# EAGLE library part USB-C_R/A_HYBRID (library habexpico8)
USB-C Right Angle Hybrid Receptacle
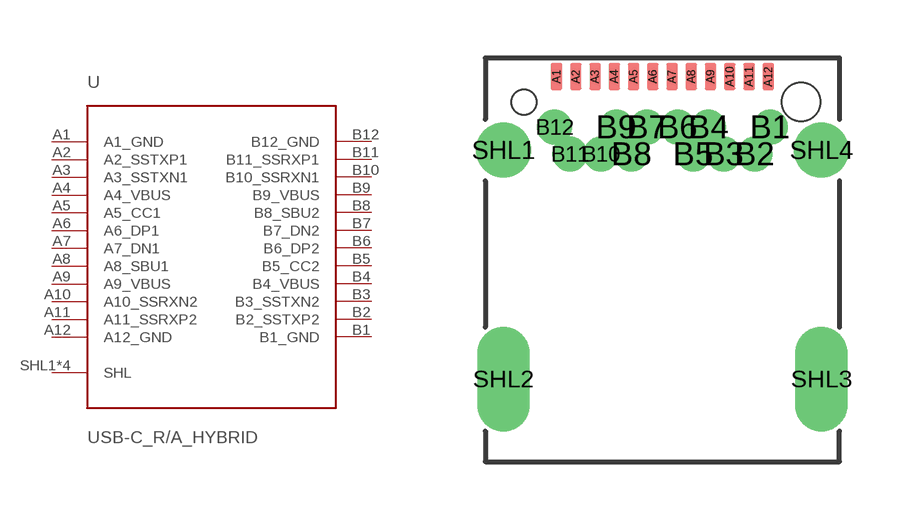
[diagram p6: symbol with the pads of USB-C_R/A_HYBRID_RCPT; footprint USB-C_R/A_HYBRID_RCPT]

Designator prefix U

## USB-C_R/A_HYBRID (MFG_PN: 12401548E4#2A)  [USB-C_R/A_HYBRID_RCPT]
A1  A1_GND
A2  A2_SSTXP1
A3  A3_SSTXN1
A4  A4_VBUS
A5  A5_CC1
A6  A6_DP1
A7  A7_DN1
A8  A8_SBU1
A9  A9_VBUS
A10  A10_SSRXN2
A11  A11_SSRXP2
A12  A12_GND
B1  B1_GND
B2  B2_SSTXP2
B3  B3_SSTXN2
B4  B4_VBUS
B5  B5_CC2
B6  B6_DP2
B7  B7_DN2
B8  B8_SBU2
B9  B9_VBUS
B10  B10_SSRXN1
B11  B11_SSRXP1
B12  B12_GND
SHL1  SHL
SHL2  SHL
SHL3  SHL
SHL4  SHL

## Footprint USB-C_R/A_HYBRID_RCPT (pad centres in mm)
smd 0.3 x 0.7: A1 -2.75,2.01; A2 -2.25,2.01; A3 -1.75,2.01; A4 -1.25,2.01; A5 -0.75,2.01; A6 -0.25,2.01; A7 0.25,2.01; A8 0.75,2.01; A9 1.25,2.01; A10 1.75,2.01; A11 2.25,2.01; A12 2.75,2.01
drill 0.4 pad 0.61: B1 2.8,0.7; B2 2.4,0; B3 1.6,0; B4 1.2,0.7; B5 0.8,0; B6 0.4,0.7; B7 -0.4,0.7; B8 -0.8,0; B9 -1.2,0.7; B10 -1.6,0; B11 -2.4,0; B12 -2.8,0.7
drill 0.85 pad 1.422: SHL1 -4.13,0.1; SHL4 4.13,0.1
drill 0.85 pad 1.27 long: SHL2 -4.13,-5.85; SHL3 4.13,-5.85
hole 0.65 at -3.6,1.35
hole 1 at 3.6,1.35